# EAGLE library part PCM5102 (library Ristretto)
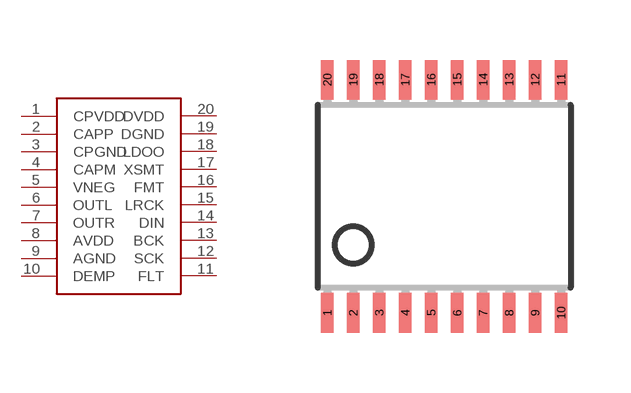
[diagram p5: symbol with the pads of TSSOP20; footprint TSSOP20]

Designator prefix -

## PCM5102  [TSSOP20]
1  CPVDD
2  CAPP
3  CPGND
4  CAPM
5  VNEG
6  OUTL
7  OUTR
8  AVDD
9  AGND
10  DEMP
11  FLT
12  SCK
13  BCK
14  DIN
15  LRCK
16  FMT
17  XSMT
18  LDOO
19  DGND
20  DVDD

## Footprint TSSOP20 (pad centres in mm)
smd 0.305 x 0.991: 1 -2.925,-2.918; 2 -2.275,-2.918; 3 -1.625,-2.918; 4 -0.975,-2.918; 5 -0.325,-2.918; 6 0.325,-2.918; 7 0.975,-2.918; 8 1.625,-2.918; 9 2.275,-2.918; 10 2.925,-2.918; 11 2.925,2.918; 12 2.275,2.918; 13 1.625,2.918; 14 0.975,2.918; 15 0.325,2.918; 16 -0.325,2.918; 17 -0.975,2.918; 18 -1.625,2.918; 19 -2.275,2.918; 20 -2.925,2.918